# EAGLE library part ATMEGA*U4-ARDUINO (library atmel (3))
8bit Microcontroller Source: http://www.atmel.com/ja/jp/Images/Atmel-7766-8-bit-AVR-ATmega16U4-32U4_Datasheet.pdf 16/32K Bytes Flash 512/1K Bytes EEPROM 1.25/2.5K Byte Internal SRAM
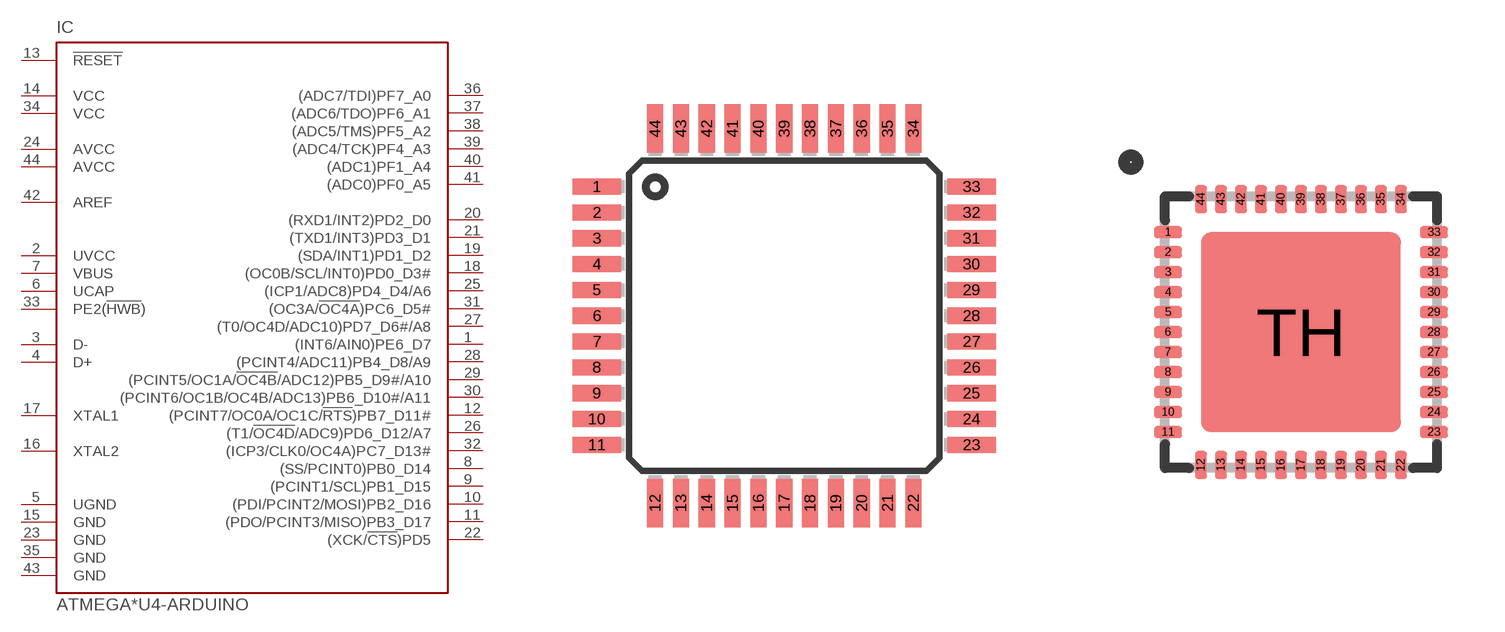
[diagram p8: symbol with the pads of TQFP44; footprints TQFP44, MLF44-TH]

Designator prefix IC

## ATMEGA16U4-ARDUINO-AU, ATMEGA32U4-ARDUINO-AU  [TQFP44]
1  (INT6/AIN0)PE6_D7
2  UVCC  pwr
3  D-
4  D+
5  UGND  pwr
6  UCAP  out
7  VBUS  pwr
8  (SS/PCINT0)PB0_D14
9  (PCINT1/SCL)PB1_D15
10  (PDI/PCINT2/MOSI)PB2_D16
11  (PDO/PCINT3/MISO)PB3_D17
12  (PCINT7/OC0A/OC1C/!RTS!)PB7_D11#
13  !RESET!  in
14  VCC  pwr
15  GND  pwr
16  XTAL2
17  XTAL1
18  (OC0B/SCL/INT0)PD0_D3#
19  (SDA/INT1)PD1_D2
20  (RXD1/INT2)PD2_D0
21  (TXD1/INT3)PD3_D1
22  (XCK/!CTS!)PD5
23  GND  pwr
24  AVCC  pwr
25  (ICP1/ADC8)PD4_D4/A6
26  (T1/!OC4D!/ADC9)PD6_D12/A7
27  (T0/OC4D/ADC10)PD7_D6#/A8
28  (PCINT4/ADC11)PB4_D8/A9
29  (PCINT5/OC1A/!OC4B!/ADC12)PB5_D9#/A10
30  (PCINT6/OC1B/OC4B/ADC13)PB6_D10#/A11
31  (OC3A/!OC4A!)PC6_D5#
32  (ICP3/CLK0/OC4A)PC7_D13#
33  PE2(!HWB!)
34  VCC  pwr
35  GND  pwr
36  (ADC7/TDI)PF7_A0
37  (ADC6/TDO)PF6_A1
38  (ADC5/TMS)PF5_A2
39  (ADC4/TCK)PF4_A3
40  (ADC1)PF1_A4
41  (ADC0)PF0_A5
42  AREF  in
43  GND  pwr
44  AVCC  pwr

## ATMEGA16U4-ARDUINO-MU, ATMEGA32U4-ARDUINO-MU  [MLF44-TH]
1  (INT6/AIN0)PE6_D7
2  UVCC  pwr
3  D-
4  D+
5  UGND  pwr
6  UCAP  out
7  VBUS  pwr
8  (SS/PCINT0)PB0_D14
9  (PCINT1/SCL)PB1_D15
10  (PDI/PCINT2/MOSI)PB2_D16
11  (PDO/PCINT3/MISO)PB3_D17
12  (PCINT7/OC0A/OC1C/!RTS!)PB7_D11#
13  !RESET!  in
14  VCC  pwr
15  GND  pwr
16  XTAL2
17  XTAL1
18  (OC0B/SCL/INT0)PD0_D3#
19  (SDA/INT1)PD1_D2
20  (RXD1/INT2)PD2_D0
21  (TXD1/INT3)PD3_D1
22  (XCK/!CTS!)PD5
23  GND  pwr
24  AVCC  pwr
25  (ICP1/ADC8)PD4_D4/A6
26  (T1/!OC4D!/ADC9)PD6_D12/A7
27  (T0/OC4D/ADC10)PD7_D6#/A8
28  (PCINT4/ADC11)PB4_D8/A9
29  (PCINT5/OC1A/!OC4B!/ADC12)PB5_D9#/A10
30  (PCINT6/OC1B/OC4B/ADC13)PB6_D10#/A11
31  (OC3A/!OC4A!)PC6_D5#
32  (ICP3/CLK0/OC4A)PC7_D13#
33  PE2(!HWB!)
34  VCC  pwr
35  GND  pwr
36  (ADC7/TDI)PF7_A0
37  (ADC6/TDO)PF6_A1
38  (ADC5/TMS)PF5_A2
39  (ADC4/TCK)PF4_A3
40  (ADC1)PF1_A4
41  (ADC0)PF0_A5
42  AREF  in
43  GND  pwr
44  AVCC  pwr
TH  GND  pwr

## Footprint TQFP44 (pad centres in mm)
44-lead Thin Quad Flat Package
smd 1.5 x 0.5: 1 -5.8,4; 2 -5.8,3.2; 3 -5.8,2.4; 4 -5.8,1.6; 5 -5.8,0.8; 6 -5.8,0; 7 -5.8,-0.8; 8 -5.8,-1.6; 9 -5.8,-2.4; 10 -5.8,-3.2; 11 -5.8,-4; 23 5.8,-4; 24 5.8,-3.2; 25 5.8,-2.4; 26 5.8,-1.6; 27 5.8,-0.8; 28 5.8,0; 29 5.8,0.8; 30 5.8,1.6; 31 5.8,2.4; 32 5.8,3.2; 33 5.8,4
smd 0.5 x 1.5: 12 -4,-5.8; 13 -3.2,-5.8; 14 -2.4,-5.8; 15 -1.6,-5.8; 16 -0.8,-5.8; 17 0,-5.8; 18 0.8,-5.8; 19 1.6,-5.8; 20 2.4,-5.8; 21 3.2,-5.8; 22 4,-5.8; 34 4,5.8; 35 3.2,5.8; 36 2.4,5.8; 37 1.6,5.8; 38 0.8,5.8; 39 0,5.8; 40 -0.8,5.8; 41 -1.6,5.8; 42 -2.4,5.8; 43 -3.2,5.8; 44 -4,5.8

## Footprint MLF44-TH (pad centres in mm)
44M1 Micro Lead Frame package (MLF) Source: http://www.atmel.com/dyn/resources/prod_documents/doc2593.pdf
smd 0.7 x 0.3: 1 -3.325,2.5; 2 -3.325,2; 3 -3.325,1.5; 4 -3.325,1; 5 -3.325,0.5; 6 -3.325,0; 7 -3.325,-0.5; 8 -3.325,-1; 9 -3.325,-1.5; 10 -3.325,-2; 11 -3.325,-2.5; 23 3.325,-2.5; 24 3.325,-2; 25 3.325,-1.5; 26 3.325,-1; 27 3.325,-0.5; 28 3.325,0; 29 3.325,0.5; 30 3.325,1; 31 3.325,1.5; 32 3.325,2; 33 3.325,2.5
smd 0.3 x 0.7: 12 -2.5,-3.325; 13 -2,-3.325; 14 -1.5,-3.325; 15 -1,-3.325; 16 -0.5,-3.325; 17 0,-3.325; 18 0.5,-3.325; 19 1,-3.325; 20 1.5,-3.325; 21 2,-3.325; 22 2.5,-3.325; 34 2.5,3.325; 35 2,3.325; 36 1.5,3.325; 37 1,3.325; 38 0.5,3.325; 39 0,3.325; 40 -0.5,3.325; 41 -1,3.325; 42 -1.5,3.325; 43 -2,3.325; 44 -2.5,3.325
smd 5 x 5: TH 0,0